# EAGLE library part ISP_SPECIAL (library bookla)
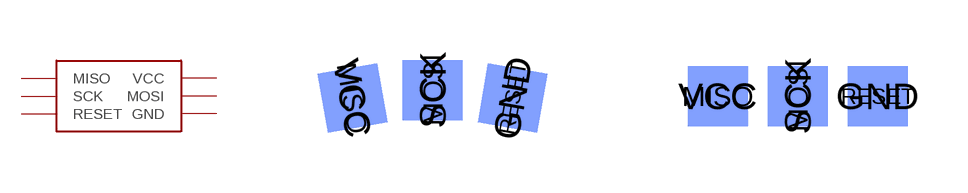
[diagram p0: symbol with the pads of ISP_SPECIAL; footprints ISP_SPECIAL, ISP_RM2_00_STRAIGHT]

Designator prefix -

## ISP_SPECIAL  [ISP_SPECIAL]
GND  VCC
MISO  RESET
MOSI  MOSI
RESET  MISO
SCK  SCK
VCC  GND

## ISP_SPECIALS  [ISP_RM2_00_STRAIGHT]
Pads as for ISP_SPECIAL

## Footprint ISP_SPECIAL (pad centres in mm)
smd 1.5 x 1.5 rotated 80 bottom: GND 2,0.55
smd 1.5 x 1.5 rotated 100: MISO -2,0.55
smd 1.5 x 1.5 bottom: MOSI 0,0.75
smd 1.5 x 1.5 rotated 80: RESET 2,0.55
smd 1.5 x 1.5: SCK 0,0.75
smd 1.5 x 1.5 rotated 100 bottom: VCC -2,0.55

## Footprint ISP_RM2_00_STRAIGHT (pad centres in mm)
smd 1.5 x 1.5 bottom: GND 2,-0.85; MOSI 0,-0.85; VCC -2,-0.85
smd 1.5 x 1.5: MISO -2,-0.85; RESET 2,-0.85; SCK 0,-0.85